# Altium footprint library Daxxn_Passives.PcbLib: 23 footprints (part 1 of 2)
Each footprint in its own frame and in the unit in brackets; x right, y up, seen from the top. Pads: shape width x height; smd on the part's side, far side on the other; paste and mask are expansions set on the pad; w line width, h text height; cw(c..) or ccw(c..) is an arc to the next point about the centre after c.
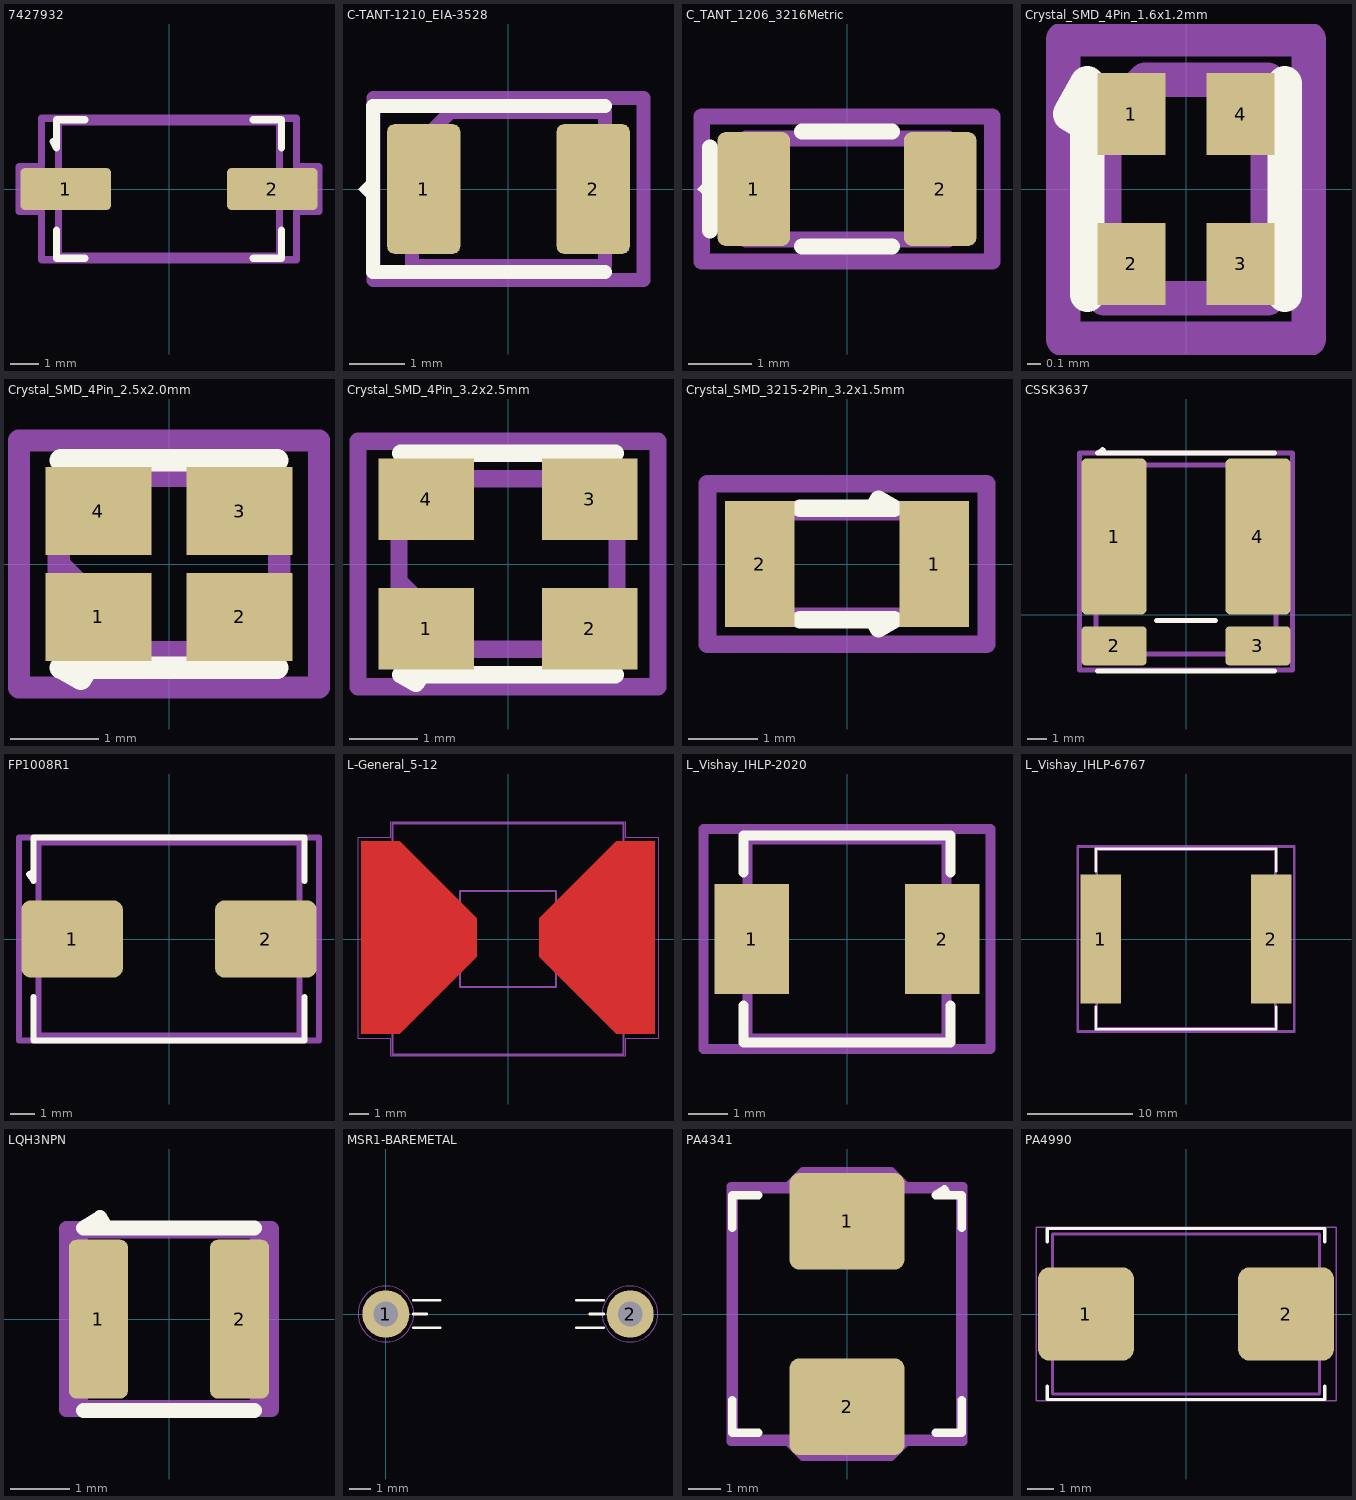
[diagram p0: the footprints below, top view; thin cyan lines are the x and y axes]

## 7427932 [mm]
pads (2):
  rrect20% 3.2x1.47 smd: 1(-3.65,0) 2(3.65,0)
F.SilkS:
  lines w0.254: -3.975,-1.45 -3.975,-2.45 -2.975,-2.45 ; -3.975,1.75 -4.1,1.675 -3.975,1.45 -3.975,2.45 -2.975,2.45 ; 2.975,-2.45 3.975,-2.45 3.975,-1.45 ; 2.975,2.45 3.975,2.45 3.975,1.45
F.CrtYd:
  lines w0.254: -5.3,-0.8 -5.3,0.8 -4.5,0.8 -4.5,2.5 4.5,2.5 4.5,0.8 5.3,0.8 5.3,-0.8 4.5,-0.8 4.5,-2.5 -4.5,-2.5 -4.5,-0.8 -5.3,-0.8
F.Fab:
  lines w0.254: -3.9,-2.375 -3.9,2.375 3.9,2.375 3.9,-2.375 -3.9,-2.375
  text "'.Designator'" at -0.989,0.012 h0.25

## C-TANT-1210_EIA-3528 [mm]
pads (2):
  rrect19% 1.325x2.35 smd: 1(-1.538,0) 2(1.538,0)
F.SilkS:
  region: -2.46,-0.27 -2.73,0 -2.46,0.26
  lines w0.254: 1.75,-1.51 -2.46,-1.51 -2.46,1.51 1.75,1.51
F.CrtYd:
  lines w0.254: -2.45,-1.65 -2.45,1.65 2.45,1.65 2.45,-1.65 -2.45,-1.65
F.Fab:
  lines w0.254: -1.75,-1.4 -1.75,0.7 -1.05,1.4 1.75,1.4 1.75,-1.4 -1.75,-1.4
  text "'.Designator'" at -1.037,0.065 h0.25

## C_TANT_1206_3216Metric [mm]
pads (2):
  rrect22% 1.15x1.8 smd: 1(-1.475,0) 2(1.475,0)
F.SilkS:
  region: -2.17,-0.175 -2.37,0 -2.17,0.2
  lines w0.254: -2.17,-0.66 -2.17,0.66 ; -0.711,-0.91 0.711,-0.91 ; -0.711,0.91 0.711,0.91
F.CrtYd:
  lines w0.254: -2.3,-1.15 -2.3,1.15 2.3,1.15 2.3,-1.15 -2.3,-1.15
F.Fab:
  lines w0.254: -1.6,-0.8 -1.6,0.8 1.6,0.8 1.6,-0.8 -1.6,-0.8
  text "'.Designator'" at -1.037,-0.035 h0.25

## Crystal_SMD_4Pin_1.6x1.2mm [mm]
pads (4):
  rect 0.5x0.6 smd: 1(-0.4,0.55) 2(-0.4,-0.55) 3(0.4,-0.55) 4(0.4,0.55)
F.SilkS:
  lines w0.254: -0.725,-0.775 -0.725,0.775 -0.85,0.55 -0.725,0.475 ; 0.725,-0.775 0.725,0.775
F.CrtYd:
  lines w0.254: -0.9,-1.1 -0.9,1.1 0.9,1.1 0.9,-1.1 -0.9,-1.1
F.Fab:
  lines w0.254: -0.6,-0.8 -0.6,0.5 -0.3,0.8 0.6,0.8 0.6,-0.8 -0.6,-0.8
  text "'.Designator'" at 0.048,-1.024 h0.25

## Crystal_SMD_4Pin_2.5x2.0mm [mm]
pads (4):
  rect 1.2x1 smd: 1(-0.8,-0.6) 2(0.8,-0.6) 3(0.8,0.6) 4(-0.8,0.6)
F.SilkS:
  lines w0.254: -1.225,1.175 1.225,1.175 ; -0.925,-1.175 -1,-1.3 -1.225,-1.175 1.225,-1.175
F.CrtYd:
  lines w0.254: -1.7,-1.4 -1.7,1.4 1.7,1.4 1.7,-1.4 -1.7,-1.4
F.Fab:
  lines w0.254: -1.25,0 -0.25,-1 ; -1.25,-0.9 -1.25,0.9 -1.15,1 1.15,1 1.25,0.9 1.25,-0.9 1.15,-1 -1.15,-1 -1.25,-0.9
  text "'.Designator'" at -1.037,-0.01 h0.25

## Crystal_SMD_4Pin_3.2x2.5mm [mm]
pads (4):
  rect 1.4x1.2 smd: 1(-1.2,-0.95) 2(1.2,-0.95) 3(1.2,0.95) 4(-1.2,0.95)
F.SilkS:
  lines w0.254: -1.575,1.625 1.575,1.625 ; -1.275,-1.625 -1.35,-1.75 -1.575,-1.625 1.575,-1.625
F.CrtYd:
  lines w0.254: -2.2,-1.8 -2.2,1.8 2.2,1.8 2.2,-1.8 -2.2,-1.8
F.Fab:
  lines w0.254: -1.6,-0.25 -0.6,-1.25 ; -1.6,-1.15 -1.6,1.15 -1.5,1.25 1.5,1.25 1.6,1.15 1.6,-1.15 1.5,-1.25 -1.5,-1.25 -1.6,-1.15
  text "'.Designator'" at -1.037,-0.01 h0.25

## Crystal_SMD_3215-2Pin_3.2x1.5mm [mm]
pads (2):
  rect 1x1.8 smd: 1(1.25,0) 2(-1.25,0)
F.SilkS:
  lines w0.254: -0.675,-0.8 0.675,-0.8 0.45,-0.925 0.375,-0.8 ; -0.675,0.8 0.675,0.8 0.45,0.925 0.375,0.8
F.CrtYd:
  lines w0.254: -2,-1.15 -2,1.15 2,1.15 2,-1.15 -2,-1.15
F.Fab:
  lines w0.254: -1.6,-0.75 -1.6,0.75 1.6,0.75 1.6,-0.75 -1.6,-0.75
  text "'.Designator'" at -1.037,0.015 h0.25

## CSSK3637 [mm]
pads (4):
  rrect15% 3.3x7.92 smd: 1(-3.65,3.96) 4(3.65,3.96)
  rrect20% 3.3x1.98 smd: 2(-3.65,-1.59) 3(3.65,-1.59)
F.SilkS:
  lines w0.254: -4.5,-2.85 4.5,-2.85 ; -4.125,8.2 -4.225,8.375 -4.5,8.2 4.5,8.2 ; -1.5,-0.3 1.5,-0.3
F.CrtYd:
  lines w0.254: -5.4,-2.8 -5.4,8.2 5.4,8.2 5.4,-2.8 -5.4,-2.8
F.Fab:
  lines w0.254: -4.57,-2 -4.57,7.6 4.57,7.6 4.57,-2 -4.57,-2
  text "'.Designator'" at -4.047,9.66 h1

## FP1008R1 [mm]
pads (2):
  rrect25% 4.2x3.2 smd: 1(-4,0) 2(4,0)
F.SilkS:
  lines w0.254: -5.6,-2.4 -5.6,-4.2 5.6,-4.2 5.6,-2.4 ; -5.6,2.775 -5.775,2.675 -5.6,2.4 -5.6,4.2 5.6,4.2 5.6,2.4
F.CrtYd:
  lines w0.254: -6.2,-4.2 -6.2,4.2 6.2,4.2 6.2,-4.2 -6.2,-4.2
F.Fab:
  lines w0.254: -5.4,-4 -5.4,4 5.4,4 5.4,-4 -5.4,-4
  text "'.Designator'" at -4.047,6.96 h1

## L-General_5-12 [mm]
pads (2):
  rect 0.001x0.001 smd: 1(-7.62,5.08) 2(7.62,5.08)
F.Cu:
  region: -1.62,1.08 -1.62,-0.92 -5.62,-4.92 -7.62,-4.92 -7.62,5.08 -5.62,5.08
  region: 7.62,-4.92 5.62,-4.92 1.62,-0.92 1.62,1.08 5.62,5.08 7.62,5.08
F.Paste:
  region: -1.62,1.08 -1.62,-0.92 -5.62,-4.92 -7.62,-4.92 -7.62,5.08 -5.62,5.08
  region: 7.62,-4.92 5.62,-4.92 1.62,-0.92 1.62,1.08 5.62,5.08 7.62,5.08
F.Mask:
  region: -1.62,1.08 -1.62,-0.92 -5.62,-4.92 -7.62,-4.92 -7.62,5.08 -5.62,5.08
  region: 7.62,-4.92 5.62,-4.92 1.62,-0.92 1.62,1.08 5.62,5.08 7.62,5.08
F.CrtYd:
  lines w0.05: -7.8,-5.2 -6.1,-5.2 -6.1,-6.1 6.1,-6.1 6.1,-5.2 7.8,-5.2 7.8,5.3 6.1,5.3 6.1,6.1 -6.1,6.1 -6.1,5.3 -7.8,5.3 -7.8,-5.2
F.Fab:
  lines w0.1: -6,-6 -6,6 6,6 6,-6 -6,-6 ; -2.5,-2.5 -2.5,2.5 2.5,2.5 2.5,-2.5 -2.5,-2.5
  text "'.Designator'" at -3.267,8.298 h0.8

## L_Vishay_IHLP-2020 [mm]
pads (2):
  rect 1.903x2.79 smd: 1(-2.427,0) 2(2.427,0)
F.SilkS:
  lines w0.254: -2.64,-1.695 -2.64,-2.64 2.64,-2.64 2.64,-1.695 ; -2.64,1.695 -2.64,2.64 2.64,2.64 2.64,1.695
F.CrtYd:
  lines w0.254: -3.65,-2.8 -3.65,2.8 3.65,2.8 3.65,-2.8 -3.65,-2.8
F.Fab:
  lines w0.254: -2.54,-2.54 -2.54,2.54 2.54,2.54 2.54,-2.54 -2.54,-2.54
  text "'.Designator'" at -4.047,-0.84 h1

## L_Vishay_IHLP-6767 [mm]
pads (2):
  rect 3.825x12.32 smd: 1(-8.123,0) 2(8.123,0)
F.SilkS:
  lines w0.254: -8.609,-6.46 -8.609,-8.609 8.609,-8.609 8.609,-6.46 ; -8.609,6.46 -8.609,8.609 8.609,8.609 8.609,6.46
F.CrtYd:
  lines w0.254: -10.3,-8.8 -10.3,8.8 10.3,8.8 10.3,-8.8 -10.3,-8.8
F.Fab:
  lines w0.254: -8.509,-8.509 -8.509,8.509 8.509,8.509 8.509,-8.509 -8.509,-8.509
  text "'.Designator'" at -4.047,-0.84 h1

## LQH3NPN [mm]
pads (2):
  rrect25% 1x2.7 smd: 1(-1.2,0) 2(1.2,0)
F.SilkS:
  lines w0.254: -1.45,-1.55 1.45,-1.55 ; -1.075,1.55 -1.175,1.725 -1.45,1.55 1.45,1.55
F.CrtYd:
  lines w0.254: -1.74,-1.54 -1.74,1.54 1.74,1.54 1.74,-1.54 -1.74,-1.54
F.Fab:
  lines w0.254: -1.5,-1.5 -1.5,1.5 1.5,1.5 1.5,-1.5 -1.5,-1.5
  text "'.Designator'" at -1.037,0.015 h0.25

## MSR1-BAREMETAL [mm]
pads (2):
  round 2.2 hole 1.15: 1(0,0) 2(11.4,0)
F.SilkS:
  lines w0.12: 1.27,-0.635 2.54,-0.635 ; 1.27,0 1.905,0 ; 1.27,0.635 2.54,0.635 ; 8.89,-0.635 10.16,-0.635 ; 8.89,0.635 10.16,0.635 ; 9.525,0 10.16,0
F.CrtYd:
  circle w0.05: c0,0 r1.3
  circle w0.05: c11.4,0 r1.3
F.Fab:
  text "'.Designator'" at 7.383,1.065 h1

## PA4341 [mm]
pads (2):
  rrect20% 3.5x2.95 smd: 1(0,2.825) 2(0,-2.825)
F.SilkS:
  lines w0.254: -3.5,-2.625 -3.5,-3.625 -2.7,-3.625 ; -3.5,2.625 -3.5,3.625 -2.7,3.625 ; 2.7,-3.625 3.5,-3.625 3.5,-2.625 ; 3.075,3.625 2.975,3.8 2.7,3.625 3.5,3.625 3.5,2.625
F.CrtYd:
  lines w0.254: -3.55,-3.9 -3.55,3.9 -1.8,3.9 -1.35,4.35 1.35,4.35 1.8,3.9 3.55,3.9 3.55,-3.9 1.8,-3.9 1.35,-4.35 -1.35,-4.35 -1.8,-3.9 -3.55,-3.9
F.Fab:
  lines w0.254: -3.45,-3.8 -3.45,3.8 3.45,3.8 3.45,-3.8 -3.45,-3.8
  text "'.Designator'" at -1.037,0.04 h0.25

## PA4990 [mm]
pads (2):
  rrect25% 3.6x3.5 smd: 1(-3.75,0) 2(3.75,0)
F.SilkS:
  lines w0.12: -5.2,-2.7 -5.2,-3.2 5.2,-3.2 5.2,-2.7 ; -5.2,2.7 -5.2,3.2 5.2,3.2 5.2,2.7
F.CrtYd:
  lines w0.05: -5.62,-3.25 -5.62,3.25 5.62,3.25 5.62,-3.25 -5.62,-3.25
F.Fab:
  lines w0.1: -5,-3 -5,3 5,3 5,-3 -5,-3
  text "'.Designator'" at -4.047,5.96 h1